# Altium integrated library WE-HCI SMD Flat Wire High Current Inductor.IntLib: 110 symbols (part 2 of 2)
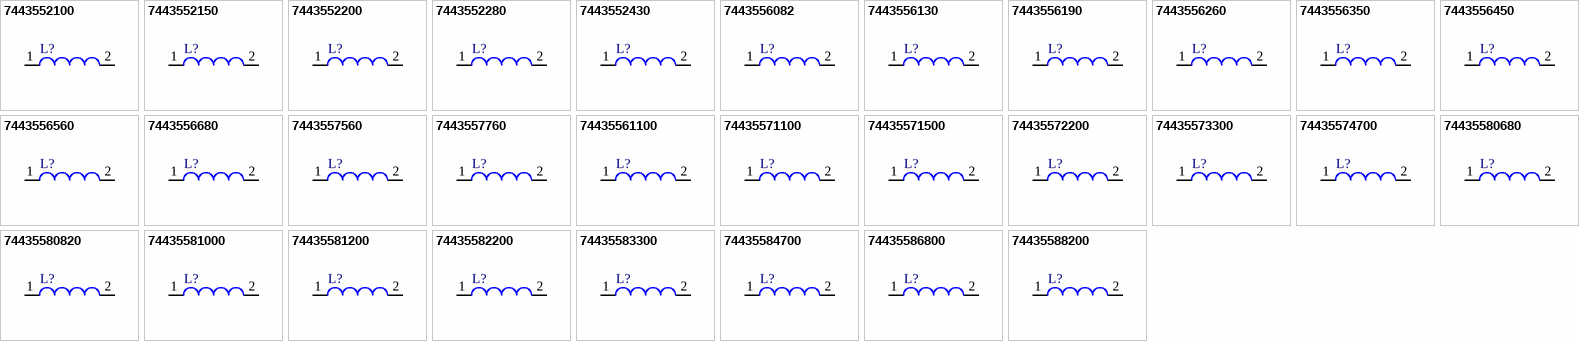
[diagram p3: symbols 7443552100 to 74435588200]

## 7443556680
designator L?
SMD Flat Wire High Current Inductor WE-HCI, L=6.80 µH; PartNumber: 7443556680; Inductance: 6.80 µH; DatasheetVersion: ver 3, Nov-2009; PackageReference: WE-HCI-1890; PackageDescription: Inductor, 2-Leads, Body 18.3 x 18.2 mm; ComponentLink1Description: Manufacturer URL; ComponentLink1URL: http://www.we-online.com; ComponentLink2Description: Datasheet; ComponentLink2URL: http://www.we-online.de/katalog/media/pdf/7443556680.pdf
footprint WE-HCI-1890 (Inductor, 2-Leads, Body 18.3x18.2x9.2 mm)
pins: 1, 2

## 7443557560
designator L?
SMD Flat Wire High Current Inductor WE-HCI, L=5.60 µH; PartNumber: 7443557560; Inductance: 5.60 µH; PackageReference: WE-HCI-1890; PackageDescription: Inductor, 2-Leads, Body 18.3 x 18.2 mm; ComponentLink1Description: Manufacturer URL; ComponentLink1URL: http://www.we-online.com; ComponentLink2Description: Datasheet; ComponentLink2URL: http://katalog.we-online.de/kataloge/eisos/media/pdf/7443557560.pdf
footprint WE-HCI-1890 (Inductor, 2-Leads, Body 18.3x18.2x9.2 mm)
pins: 1, 2

## 7443557760
designator L?
SMD Flat Wire High Current Inductor WE-HCI, L=7.60 µH; PartNumber: 7443557760; Inductance: 7.60 µH; PackageReference: WE-HCI-1890; PackageDescription: Inductor, 2-Leads, Body 18.3 x 18.2 mm; ComponentLink1Description: Manufacturer URL; ComponentLink1URL: http://www.we-online.com; ComponentLink2Description: Datasheet; ComponentLink2URL: http://katalog.we-online.de/kataloge/eisos/media/pdf/7443557760.pdf
footprint WE-HCI-1890 (Inductor, 2-Leads, Body 18.3x18.2x9.2 mm)
pins: 1, 2

## 74435561100
designator L?
SMD Flat Wire High Current Inductor WE-HCI, L=10.0 µH; PartNumber: 74435561100; Inductance: 10.0 µH; DatasheetVersion: ver 2, Nov-2009; PackageReference: WE-HCI-1890; PackageDescription: Inductor, 2-Leads, Body 18.3 x 18.2 mm; ComponentLink1Description: Manufacturer URL; ComponentLink1URL: http://www.we-online.com; ComponentLink2Description: Datasheet; ComponentLink2URL: http://www.we-online.de/katalog/media/pdf/74435561100.pdf
footprint WE-HCI-1890 (Inductor, 2-Leads, Body 18.3x18.2x9.2 mm)
pins: 1, 2

## 74435571100
designator L?
SMD Flat Wire High Current Inductor WE-HCI, L=10.0 µH; PartNumber: 74435571100; Inductance: 10.0 µH; DatasheetVersion: ver 2, Nov-2009; PackageReference: WE-HCI-1890; PackageDescription: Inductor, 2-Leads, Body 18.3 x 18.2 mm; ComponentLink1Description: Manufacturer URL; ComponentLink1URL: http://www.we-online.com; ComponentLink2Description: Datasheet; ComponentLink2URL: http://www.we-online.de/katalog/media/pdf/74435571100.pdf
footprint WE-HCI-1890 (Inductor, 2-Leads, Body 18.3x18.2x9.2 mm)
pins: 1, 2

## 74435571500
designator L?
SMD Flat Wire High Current Inductor WE-HCI, L=15.0 µH; PartNumber: 74435571500; Inductance: 15.0 µH; DatasheetVersion: ver 2, Nov-2009; PackageReference: WE-HCI-1890; PackageDescription: Inductor, 2-Leads, Body 18.3 x 18.2 mm; ComponentLink1Description: Manufacturer URL; ComponentLink1URL: http://www.we-online.com; ComponentLink2Description: Datasheet; ComponentLink2URL: http://www.we-online.de/katalog/media/pdf/74435571500.pdf
footprint WE-HCI-1890 (Inductor, 2-Leads, Body 18.3x18.2x9.2 mm)
pins: 1, 2

## 74435572200
designator L?
SMD Flat Wire High Current Inductor WE-HCI, L=22.0 µH; PartNumber: 74435572200; Inductance: 22.0 µH; DatasheetVersion: ver 2, Nov-2009; PackageReference: WE-HCI-1890; PackageDescription: Inductor, 2-Leads, Body 18.3 x 18.2 mm; ComponentLink1Description: Manufacturer URL; ComponentLink1URL: http://www.we-online.com; ComponentLink2Description: Datasheet; ComponentLink2URL: http://www.we-online.de/katalog/media/pdf/74435572200.pdf
footprint WE-HCI-1890 (Inductor, 2-Leads, Body 18.3x18.2x9.2 mm)
pins: 1, 2

## 74435573300
designator L?
SMD Flat Wire High Current Inductor WE-HCI, L=33.0 µH; PartNumber: 74435573300; Inductance: 33.0 µH; DatasheetVersion: ver 2, Nov-2009; PackageReference: WE-HCI-1890; PackageDescription: Inductor, 2-Leads, Body 18.3 x 18.2 mm; ComponentLink1Description: Manufacturer URL; ComponentLink1URL: http://www.we-online.com; ComponentLink2Description: Datasheet; ComponentLink2URL: http://www.we-online.de/katalog/media/pdf/74435573300.pdf
footprint WE-HCI-1890 (Inductor, 2-Leads, Body 18.3x18.2x9.2 mm)
pins: 1, 2

## 74435574700
designator L?
SMD Flat Wire High Current Inductor WE-HCI, L=47.0 µH; PartNumber: 74435574700; Inductance: 47.0 µH; DatasheetVersion: ver 2, Nov-2009; PackageReference: WE-HCI-1890; PackageDescription: Inductor, 2-Leads, Body 18.3 x 18.2 mm; ComponentLink1Description: Manufacturer URL; ComponentLink1URL: http://www.we-online.com; ComponentLink2Description: Datasheet; ComponentLink2URL: http://www.we-online.de/katalog/media/pdf/74435574700.pdf
footprint WE-HCI-1890 (Inductor, 2-Leads, Body 18.3x18.2x9.2 mm)
pins: 1, 2

## 74435580680
designator L?
SMD Flat Wire Hight Current Inductor WE-HCI, L=6.8 µH; PartNumber: 74435580680; Inductance: 6.8 µH; PackageReference: WE-HCI 2212; ComponentLink1Description: Manufacturer URL; ComponentLink1URL: http://www.we-online.com; ComponentLink2Description: Datasheet; ComponentLink2URL: http://katalog.we-online.de/pbs/datasheet/74435580680.pdf
footprint WE-HCI 2212 (High Current Inductor, 2-Leads, Body 22.0x22.5mm)
pins: 1, 2

## 74435580820
designator L?
SMD Flat Wire Hight Current Inductor WE-HCI, L=8.2 µH; PartNumber: 74435580820; Inductance: 8.2 µH; PackageReference: WE-HCI 2212; ComponentLink1Description: Manufacturer URL; ComponentLink1URL: http://www.we-online.com; ComponentLink2Description: Datasheet; ComponentLink2URL: http://katalog.we-online.de/pbs/datasheet/74435580820.pdf
footprint WE-HCI 2212 (High Current Inductor, 2-Leads, Body 22.0x22.5mm)
pins: 1, 2

## 74435581000
designator L?
SMD Flat Wire Hight Current Inductor WE-HCI, L=10.0 µH; PartNumber: 74435581000; Inductance: 10.0 µH; PackageReference: WE-HCI 2212; ComponentLink1Description: Manufacturer URL; ComponentLink1URL: http://www.we-online.com; ComponentLink2Description: Datasheet; ComponentLink2URL: http://katalog.we-online.de/pbs/datasheet/74435581000.pdf
footprint WE-HCI 2212 (High Current Inductor, 2-Leads, Body 22.0x22.5mm)
pins: 1, 2

## 74435581200
designator L?
SMD Flat Wire Hight Current Inductor WE-HCI, L=12.0 µH; PartNumber: 74435581200; Inductance: 12.0 µH; PackageReference: WE-HCI 2212; ComponentLink1Description: Manufacturer URL; ComponentLink1URL: http://www.we-online.com; ComponentLink2Description: Datasheet; ComponentLink2URL: http://katalog.we-online.de/pbs/datasheet/74435581200.pdf
footprint WE-HCI 2212 (High Current Inductor, 2-Leads, Body 22.0x22.5mm)
pins: 1, 2

## 74435582200
designator L?
SMD Flat Wire Hight Current Inductor WE-HCI, L=22.0 µH; PartNumber: 74435582200; Inductance: 22.0 µH; PackageReference: WE-HCI 2212; ComponentLink1Description: Manufacturer URL; ComponentLink1URL: http://www.we-online.com; ComponentLink2Description: Datasheet; ComponentLink2URL: http://katalog.we-online.de/pbs/datasheet/74435582200.pdf
footprint WE-HCI 2212 (High Current Inductor, 2-Leads, Body 22.0x22.5mm)
pins: 1, 2

## 74435583300
designator L?
SMD Flat Wire Hight Current Inductor WE-HCI, L=33.0 µH; PartNumber: 74435583300; Inductance: 33.0 µH; PackageReference: WE-HCI 2212; ComponentLink1Description: Manufacturer URL; ComponentLink1URL: http://www.we-online.com; ComponentLink2Description: Datasheet; ComponentLink2URL: http://katalog.we-online.de/pbs/datasheet/74435583300.pdf
footprint WE-HCI 2212 (High Current Inductor, 2-Leads, Body 22.0x22.5mm)
pins: 1, 2

## 74435584700
designator L?
SMD Flat Wire Hight Current Inductor WE-HCI, L=47.0 µH; PartNumber: 74435584700; Inductance: 47.0 µH; PackageReference: WE-HCI 2212; ComponentLink1Description: Manufacturer URL; ComponentLink1URL: http://www.we-online.com; ComponentLink2Description: Datasheet; ComponentLink2URL: http://katalog.we-online.de/pbs/datasheet/74435584700.pdf
footprint WE-HCI 2212 (High Current Inductor, 2-Leads, Body 22.0x22.5mm)
pins: 1, 2

## 74435586800
designator L?
SMD Flat Wire Hight Current Inductor WE-HCI, L=68.0 µH; PartNumber: 74435586800; Inductance: 68.0 µH; PackageReference: WE-HCI 2212; ComponentLink1Description: Manufacturer URL; ComponentLink1URL: http://www.we-online.com; ComponentLink2Description: Datasheet; ComponentLink2URL: http://katalog.we-online.de/pbs/datasheet/74435586800.pdf
footprint WE-HCI 2212 (High Current Inductor, 2-Leads, Body 22.0x22.5mm)
pins: 1, 2

## 74435588200
designator L?
SMD Flat Wire Hight Current Inductor WE-HCI, L=82.0 µH; PartNumber: 74435588200; Inductance: 82.0 µH; PackageReference: WE-HCI 2212; ComponentLink1Description: Manufacturer URL; ComponentLink1URL: http://www.we-online.com; ComponentLink2Description: Datasheet; ComponentLink2URL: http://katalog.we-online.de/pbs/datasheet/74435588200.pdf
footprint WE-HCI 2212 (High Current Inductor, 2-Leads, Body 22.0x22.5mm)
pins: 1, 2